# Altium schematic symbol library BusAdaptor.SchLib: 27 symbols
Pins are listed as number, name and electrical type; pins without a type are passive.

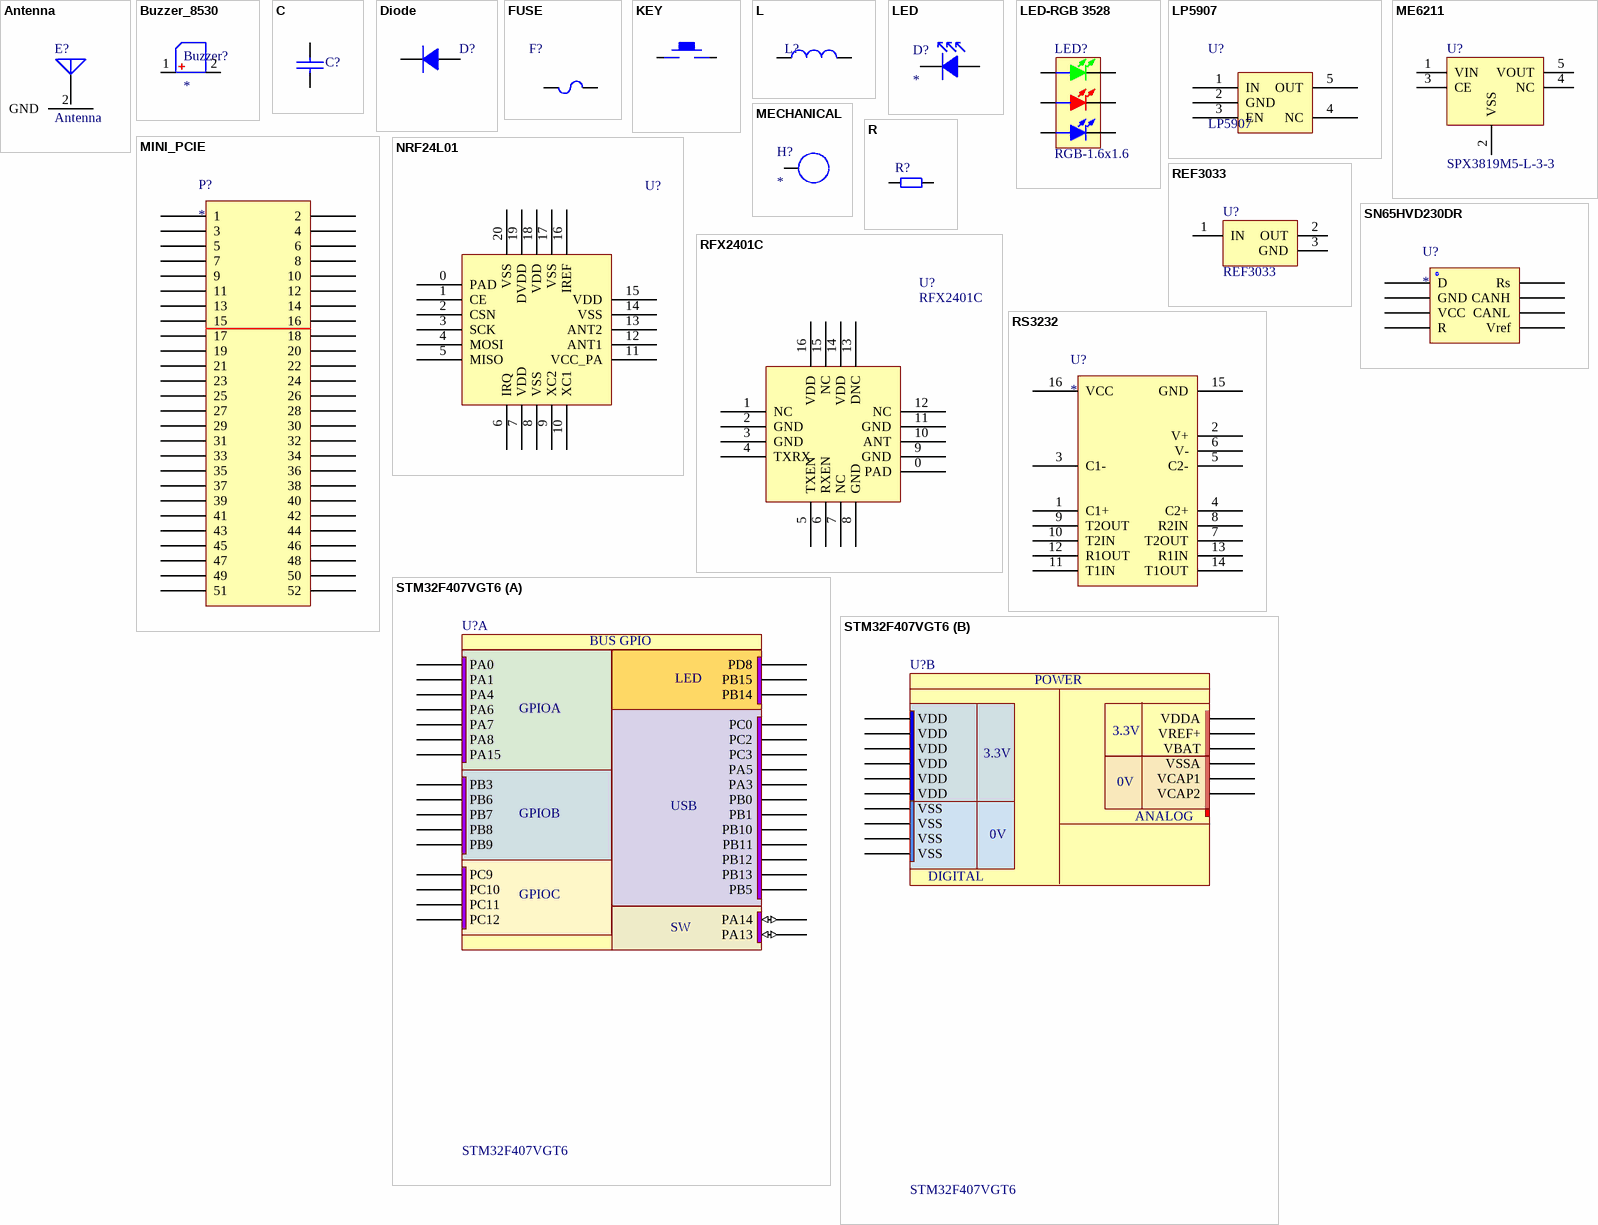
[diagram p0: symbols Antenna to STM32F407VGT6]

## Antenna
designator E?
Generic Antenna; Published: 24-Mar-1999; LatestRevisionDate: 17-Jul-2002; LatestRevisionNote: Re-released for DXP Platform.; PackageReference: PIN1; Publisher: Altium Limited
footprint IPEX
pins: 1 ANT, 2 GND

## Buzzer_8530
designator Buzzer?
无源蜂鸣器
footprint BUZZER_8530
pins: 1, 2

## C
designator C?
footprint C0402
footprint C0201
footprint C0402
footprint C0805
footprint C1206
pins: 1, 2

## Diode
designator D?
二极管; 备注: 1N4007 4007 编号C2464 已经停售, 使用新物料编号C95872; ComponentLink1Description: 供应商链接; ComponentLink1URL: http://www.szlcsc.com/product/details_2841.html; Package: SMA(DO-214AC); Supplier: LC; SuppliersPartNumber: C95872
footprint SMA(DO-214AC)_S1
pins: 1 A, 2 K

## FUSE
designator F?
FUSE
footprint R0805
pins: 1, 2

## KEY
designator Key?
footprint SMD-3.2*4.2
pins: 1, 2

## L
designator L?
footprint L-330uH
footprint SDRH5D18-220N
footprint CD127
footprint R0603
pins: 1, 2

## LED
designator D?
pins: 1 A, 2 K

## LED-RGB 3528
designator LED?, comment RGB-1.6x1.6
3528三基色LED
footprint LED 3528-4Pin (4脚，3528LED                             淘宝ID:黄晶宝石)
pins: 1 GREEN_K, 2 A, 3 RED_K, 4 A, 5 BULE_K, 6 A

## LP5907
designator U?
footprint SOT23-5
pins: 1 IN, 2 GND, 3 EN, 4 NC, 5 OUT

## ME6211
designator U?, comment SPX3819M5-L-3-3
footprint SOT23-5
pins: 1 VIN, 2 VSS, 3 CE, 4 NC, 5 VOUT

## MECHANICAL
designator H?
pins: 1

## MINI_PCIE
designator P?
pins: 1, 2, 3, 4, 5, 6, 7, 8, 9, 10, 11, 12, 13, 14, 15, 16, 17, 18, 19, 20, 21, 22, 23, 24, 25, 26, 27, 28, 29, 30, 31, 32, 33, 34, 35, 36, 37, 38, 39, 40, 41, 42, 43, 44, 45, 46, 47, 48, 49, 50, 51, 52

## NRF24L01
designator U?  (value not drawn)
footprint NRF24L01
pins: 0 PAD, 1 CE, 2 CSN, 3 SCK, 4 MOSI, 5 MISO, 6 IRQ, 7 VDD, 8 VSS, 9 XC2, 10 XC1, 11 VCC_PA, 12 ANT1, 13 ANT2, 14 VSS, 15 VDD, 16 IREF, 17 VSS, 18 VDD, 19 DVDD, 20 VSS

## R
designator R?
resistor
footprint R0402
footprint 0603R
footprint 1206R
pins: 1, 2

## REF3033
designator U?
REF3033电压参考源
footprint SOT-23
pins: 1 IN, 2 OUT, 3 GND

## RFX2401C
designator U?
footprint RFX2401C
pins: 0 PAD, 1 NC, 2 GND, 3 GND, 4 TXRX, 5 TXEN, 6 RXEN, 7 NC, 8 GND, 9 GND, 10 ANT, 11 GND, 12 NC, 13 DNC, 14 VDD, 15 NC, 16 VDD

## RS3232
designator U?
pins: 1 C1+, 2 V+, 3 C1-, 4 C2+, 5 C2-, 6 V-, 7 T2OUT, 8 R2IN, 9 T2OUT, 10 T2IN, 11 T1IN, 12 R1OUT, 13 R1IN, 14 T1OUT, 15 GND, 16 VCC

## SN65HVD230DR
designator U?
pins: 1 D, 2 GND, 3 VCC, 4 R, 5 Vref, 6 CANL, 7 CANH, 8 Rs

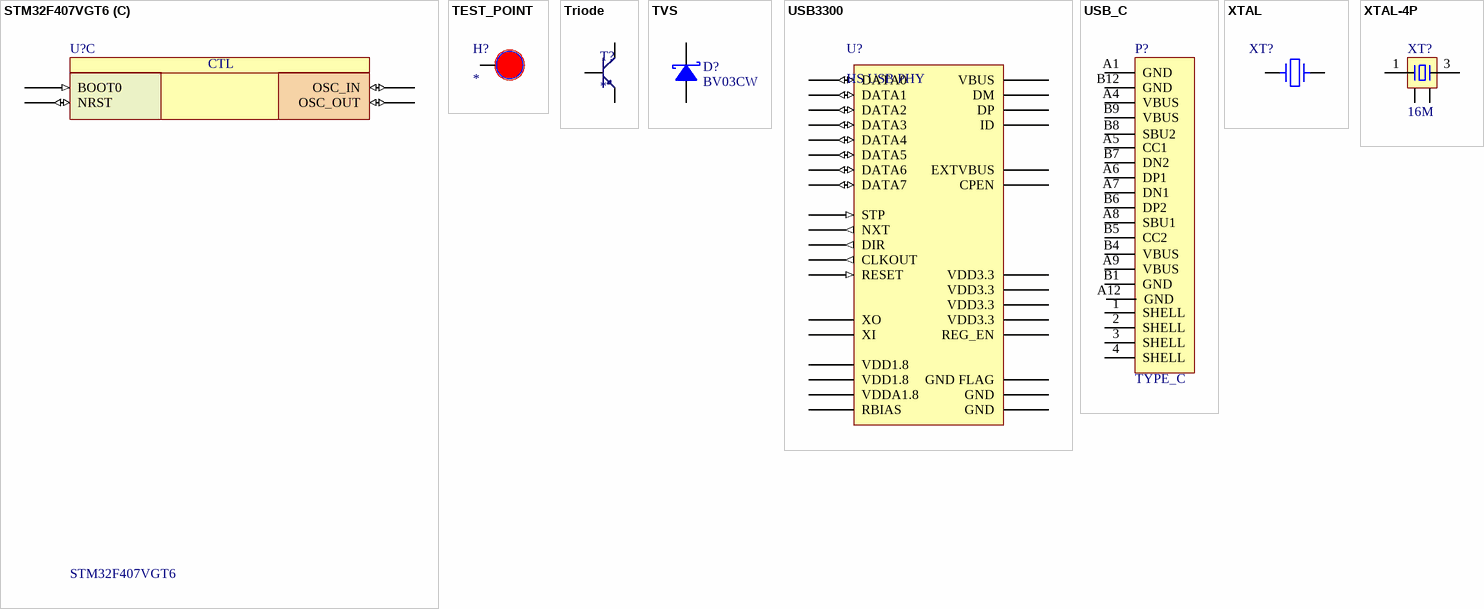
[diagram p1: symbols STM32F407VGT6 to XTAL-4P]

## STM32F407VGT6
designator U?
ARM Cortex-M4 32b MCU+FPU, 1024 kB Flash, 192+4 kB RAM,82 I/Os, 100-pin LQFP; Internal RAM: 192kB; Operating Frequency (Processor Speed): 168MHz; A/D Converter: 16x12-bit; D/A Converter: 2x12-bit; 16-bit Timers (IC/OC/PWM): 12x16-bit(24/24/30); 32-bit Timer (IC/OC/PWM): 2x32-bit (8/8/8); Other Timer Functions: 2xWDG, RTC, 24-bit down counter; Serial Interface: 3xSPI/2xI2S/2xI2C/3xUSART(IrDa, ISO7816)/3xUART/2xUSB OTG FS/HS, 2xCAN/Ethernet MAC10/100, SDIO; DatasheetVersion: rev2, Jan-2012; PackageVersion: 2012; PackageReference: LQFP100; PackageDescription: 100-Pin Low Profile Quad Flat Package, 14x14 mm Body, 0.5 mm Pitch; ComponentLink1Description: Manufacturer URL; ComponentLink1URL: http://www.st.com/; ComponentLink2Description: STM32F405/7 Datasheet; ComponentLink2URL: http://www.st.com/internet/com/TECHNICAL_RESOURCES/TECHNICAL_LITERATURE/DATASHEET/DM00037051.pdf; ComponentLink3Description: STM32F4 Web Page; ComponentLink3URL: http://www.st.com/internet/mcu/subclass/1521.jsp
footprint TQFP-100
part A pins: 15 PC0 "Voltage switchable GPIO for FPIOA (3.3V or 1.8V). After reset is :  GPIOHS21.", 17 PC2 "Voltage switchable GPIO for FPIOA (3.3V or 1.8V). After reset is :  GPIOHS22.", 18 PC3 "Voltage switchable GPIO for FPIOA (3.3V or 1.8V). After reset is :  GPIOHS23.", 23 PA0 "Voltage switchable GPIO for FPIOA (3.3V or 1.8V). After reset is :  GPIOHS8.", 24 PA1 "Voltage switchable GPIO for FPIOA (3.3V or 1.8V). After reset is :  GPIOHS9.", 26 PA3 "Voltage switchable GPIO for FPIOA (3.3V or 1.8V). After reset is :  GPIOHS22.", 29 PA4 "Voltage switchable GPIO for FPIOA (3.3V or 1.8V). After reset is :  GPIOHS10.", 30 PA5 "Voltage switchable GPIO for FPIOA (3.3V or 1.8V). After reset is :  GPIOHS21.", 31 PA6 "Voltage switchable GPIO for FPIOA (3.3V or 1.8V). After reset is :  GPIOHS11.", 32 PA7 "Voltage switchable GPIO for FPIOA (3.3V or 1.8V). After reset is :  GPIOHS12.", 35 PB0 "Voltage switchable GPIO for FPIOA (3.3V or 1.8V). After reset is :  GPIOHS23.", 36 PB1 "Voltage switchable GPIO for FPIOA (3.3V or 1.8V). After reset is :  GPIOHS21.", 47 PB10 "Voltage switchable GPIO for FPIOA (3.3V or 1.8V). After reset is :  GPIOHS22.", 48 PB11 "Voltage switchable GPIO for FPIOA (3.3V or 1.8V). After reset is :  GPIOHS23.", 51 PB12 "Voltage switchable GPIO for FPIOA (3.3V or 1.8V). After reset is :  GPIOHS21.", 52 PB13 "Voltage switchable GPIO for FPIOA (3.3V or 1.8V). After reset is :  GPIOHS22.", 53 PB14 "Voltage switchable GPIO for FPIOA (3.3V or 1.8V). After reset is :  GPIOHS23.", 54 PB15 "Voltage switchable GPIO for FPIOA (3.3V or 1.8V). After reset is :  GPIOHS22.", 55 PD8 "Voltage switchable GPIO for FPIOA (3.3V or 1.8V). After reset is :  GPIOHS21.", 66 PC9 "Voltage switchable GPIO for FPIOA (3.3V or 1.8V). After reset is :  GPIOHS13.", 67 PA8 "Voltage switchable GPIO for FPIOA (3.3V or 1.8V). After reset is :  GPIOHS14.", 72 PA13 (io), 76 PA14 (io), 77 PA15 "Voltage switchable GPIO for FPIOA (3.3V or 1.8V). After reset is :  GPIOHS15.", 78 PC10 "Voltage switchable GPIO for FPIOA (3.3V or 1.8V). After reset is :  GPIOHS16.", 79 PC11 "Voltage switchable GPIO for FPIOA (3.3V or 1.8V). After reset is :  GPIOHS17.", 80 PC12 "Voltage switchable GPIO for FPIOA (3.3V or 1.8V). After reset is :  GPIOHS18.", 89 PB3 "Voltage switchable GPIO for FPIOA (3.3V or 1.8V). After reset is :  GPIOHS19.", 91 PB5 "Voltage switchable GPIO for FPIOA (3.3V or 1.8V). After reset is :  GPIOHS23.", 92 PB6 "Voltage switchable GPIO for FPIOA (3.3V or 1.8V). After reset is :  GPIOHS20.", 93 PB7 "Voltage switchable GPIO for FPIOA (3.3V or 1.8V). After reset is :  GPIOHS21.", 95 PB8 "Voltage switchable GPIO for FPIOA (3.3V or 1.8V). After reset is :  GPIOHS22.", 96 PB9 "Voltage switchable GPIO for FPIOA (3.3V or 1.8V). After reset is :  GPIOHS23."
part B pins: 6 VBAT (power) "0.9V Power supply for digital core. After reset is :  VDD.", 10 VSS (power) "Ground. After reset is :  VSS.", 11 VDD (power) "0.9V Power supply for digital core. After reset is :  VDD.", 19 VDD (power) "0.9V Power supply for digital core. After reset is :  VDD.", 20 VSSA (power) "Ground. After reset is :  VSS.", 21 VREF+ (power) "0.9V Power supply for digital core. After reset is :  VDD.", 22 VDDA (power) "0.9V Power supply for digital core. After reset is :  VDD.", 27 VSS (power) "Ground. After reset is :  VSS.", 28 VDD (power) "0.9V Power supply for digital core. After reset is :  VDD.", 49 VCAP1 (power) "0.9V Power supply for digital core. After reset is :  VDD.", 50 VDD (power) "0.9V Power supply for digital core. After reset is :  VDD.", 73 VCAP2 (power) "Ground. After reset is :  VSS.", 74 VSS (power) "Ground. After reset is :  VSS.", 75 VDD (power) "0.9V Power supply for digital core. After reset is :  VDD.", 99 VSS (power) "Ground. After reset is :  VSS.", 100 VDD (power) "0.9V Power supply for digital core. After reset is :  VDD."
part C pins: 12 OSC_IN (io), 13 OSC_OUT (io), 14 NRST (io), 94 BOOT0 (in)
part A text: BUS GPIO; LED; GPIOA; USB; GPIOB; GPIOC; SW
part B text: POWER; 3.3V; 0V; ANALOG; DIGITAL
part C text: CTL

## TEST_POINT
designator H?
pins: 1

## Triode
designator T?
NPN
footprint SOT-23-3 (SOT23, 3-Leads, Body 2.90x2.45mm, Pitch 0.95mm, IPC Medium Density)
pins: 1 B, 2 E, 3 C

## TVS
designator D?, comment BV03CW
footprint D1206
footprint DO-214AC
footprint DO-214AB
footprint SOD323
pins: 1 A, 2 K

## USB3300
designator U?, comment HS USB PHY
高速USB外置PHY
pins: 0 GND FLAG (power), 1 GND (power), 2 GND (power), 3 CPEN (power), 4 VBUS (power), 5 ID, 6 VDD3.3 (power), 7 DP, 8 DM, 9 RESET (in), 10 EXTVBUS, 11 NXT (out), 12 DIR (out), 13 STP (in), 14 CLKOUT (out), 15 VDD1.8 (power), 16 VDD3.3 (power), 17 DATA7 (io), 18 DATA6 (io), 19 DATA5 (io), 20 DATA4 (io), 21 DATA3 (io), 22 DATA2 (io), 23 DATA1 (io), 24 DATA0 (io), 25 VDD3.3 (power), 26 VDD1.8 (power), 27 XO, 28 XI, 29 VDDA1.8 (power), 30 VDD3.3 (power), 31 REG_EN, 32 RBIAS

## USB_C
designator P?, comment TYPE_C
footprint USB3.1_16P
pins: 1 SHELL, 2 SHELL, 3 SHELL, 4 SHELL, A1 GND, A4 VBUS, A5 CC1, A6 DP1, A7 DN1, A8 SBU1, A9 VBUS, A12 GND, B1 GND, B4 VBUS, B5 CC2, B6 DP2, B7 DN2, B8 SBU2, B9 VBUS, B12 GND

## XTAL
designator XT?
晶振
footprint CRYSTAL-SMD-5032
pins: 1, 2

## XTAL-4P
designator XT?, comment 16M
4脚无源晶振
footprint OSC 1612-4P (1.6*1.2*0.35mm（长宽高）)
footprint OSC 2025-4P (2*2.5*0.55mm(长宽高))
footprint OSC 3225-4P (3.2*2.5*0.7mm(长宽高))
footprint OSC 4025-4P (4*2.5*0.7mm(长宽高))
footprint OSC 5032-4P (5mm*3.2mm*0.8mm(长*宽*高))
footprint OSC 6035-4P (6mm*3.5mm*1mm(长*宽*高))
footprint OSC 7050-4P (7mm*5mm*1.3mm(长*宽*高))
footprint OSC 8045-4P (8mm*4.5mm*1.6mm(长*宽*高))
footprint OSC 8045-4P-C (8mm*4.5mm*1.8mm(长*宽*高))
pins: 1, 2, 3, 4